# Altium integrated library WE-CNSW.IntLib: 3 symbols
Pins are listed as number, name and electrical type; pins without a type are passive.

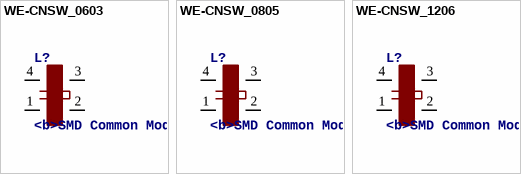
[diagram p0: symbols WE-CNSW_0603 to WE-CNSW_1206]

## WE-CNSW_0603
designator L?, comment <b>SMD Common Mode Noise Suppressor WE-CNSW</b><p> / - High common mode suppression at high frequency<br> / - Small influence for high speed signals through winding symmetry<br><br> / -- USB 2.0<br> / -- Firewire / IEEE 1394 <br> / -- Power supply systems<br> / -- High Speed Data Lines<br> / -- Common mode data line filter
MPN: 744230121; MPN: 744230181; MPN: 744230220; MPN: 744230251; MPN: 744230450; MPN: 744230900; OC_FARNELL: 1848961; OC_NEWARK: 13T9726; PACKAGE: 0603; SUPPLIER: WURTH ELEKTRONIK; OC_FARNELL: 1848962; OC_NEWARK: 13T9727; OC_FARNELL: 1848958; OC_NEWARK: 13T9728; OC_FARNELL: 1848964; OC_NEWARK: 13T9729; OC_FARNELL: 1848959; OC_NEWARK: 13T9730; OC_FARNELL: 1848960; OC_NEWARK: 13T9731
footprint WE-CNSW_0603
pins: 1, 2, 3 4, 4 3

## WE-CNSW_0805
designator L?, comment <b>SMD Common Mode Noise Suppressor WE-CNSW</b><p> / - High common mode suppression at high frequency<br> / - Small influence for high speed signals through winding symmetry<br><br> / -- USB 2.0<br> / -- Firewire / IEEE 1394 <br> / -- Power supply systems<br> / -- High Speed Data Lines<br> / -- Common mode data line filter
MPN: 744231061; MPN: 744231091; MPN: 744231121; MPN: 744231181; MPN: 744231261; MPN: 744231371; OC_FARNELL: 1636468; OC_NEWARK: 08P2541; PACKAGE: 0805; SUPPLIER: WURTH ELEKTRONIK; OC_FARNELL: 1636469; OC_NEWARK: 08P2542; OC_FARNELL: 1636470; OC_NEWARK: 08P2543; OC_FARNELL: 1636471; OC_NEWARK: 08P2544; OC_FARNELL: 1636472; OC_NEWARK: 08P2545; OC_FARNELL: 1636473; OC_NEWARK: 08P2546
footprint WE-CNSW_0805
pins: 1, 2, 3 4, 4 3

## WE-CNSW_1206
designator L?, comment <b>SMD Common Mode Noise Suppressor WE-CNSW</b><p> / - High common mode suppression at high frequency<br> / - Small influence for high speed signals through winding symmetry<br><br> / -- USB 2.0<br> / -- Firewire / IEEE 1394 <br> / -- Power supply systems<br> / -- High Speed Data Lines<br> / -- Common mode data line filter
MPN: 744232090; MPN: 744232102; MPN: 744232161; MPN: 744232222; MPN: 744232261; MPN: 744232601; OC_FARNELL: 1636474; OC_NEWARK: 08P2547; PACKAGE: 1206; SUPPLIER: WURTH ELEKTRONIK; OC_FARNELL: 1636478; OC_NEWARK: 08P2548; OC_FARNELL: 1636475; OC_NEWARK: 08P2549; OC_FARNELL: 1636481; OC_NEWARK: 08P2550; OC_FARNELL: 1636476; OC_NEWARK: 08P2551; OC_FARNELL: 1636477; OC_NEWARK: 08P2552
footprint WE-CNSW_1206
pins: 1, 2, 3 4, 4 3